# Altium schematic symbol library 613 0xx 257 21.SchLib: 14 symbols
Pins are listed as number, name and electrical type; pins without a type are passive.

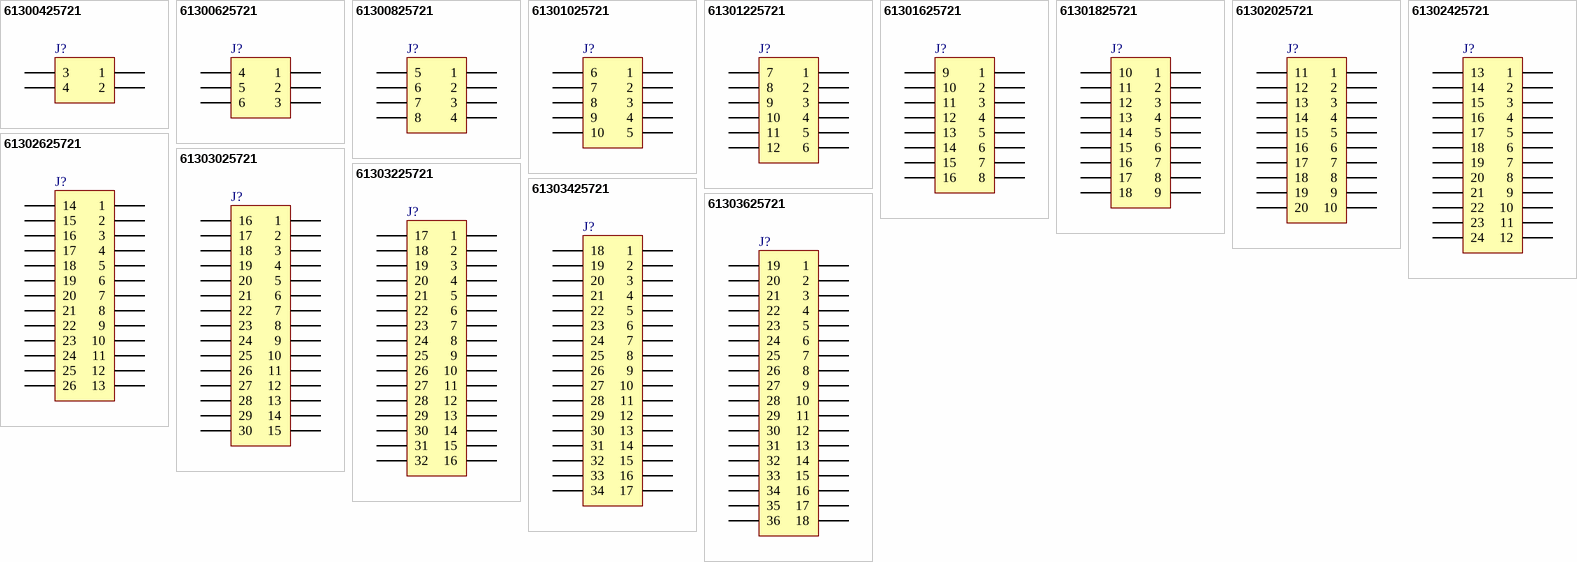
[diagram p0: symbols 61300425721 to 61303625721]

## 61300425721
designator J?, comment 04p  (value not drawn)
WR-PHD 2.54 mm Dual Socket Header Bottom Entry, 04p; PartNumber: 61300425721; PublishedDate: July 2016; Publisher: Wurth Elektronik; ComponentLink1Description: Manufacturer; ComponentLink1URL: http://www.we-online.de; ComponentLink2Description: Datasheet; ComponentLink2URL: http://katalog.we-online.de/em/datasheet/6130xx25721.pdf; PinNumber: 04p
footprint 61300425721
pins: 1, 2, 3, 4

## 61300625721
designator J?, comment 06p  (value not drawn)
WR-PHD 2.54 mm Dual Socket Header Bottom Entry, 06p; PartNumber: 61300625721; PublishedDate: July 2016; Publisher: Wurth Elektronik; ComponentLink1Description: Manufacturer; ComponentLink1URL: http://www.we-online.de; ComponentLink2Description: Datasheet; ComponentLink2URL: http://katalog.we-online.de/em/datasheet/6130xx25721.pdf; PinNumber: 06p
footprint 61300625721
pins: 1, 2, 3, 4, 5, 6

## 61300825721
designator J?, comment 08p  (value not drawn)
WR-PHD 2.54 mm Dual Socket Header Bottom Entry, 08p; PartNumber: 61300825721; PublishedDate: July 2016; Publisher: Wurth Elektronik; ComponentLink1Description: Manufacturer; ComponentLink1URL: http://www.we-online.de; ComponentLink2Description: Datasheet; ComponentLink2URL: http://katalog.we-online.de/em/datasheet/6130xx25721.pdf; PinNumber: 08p
footprint 61300825721
pins: 1, 2, 3, 4, 5, 6, 7, 8

## 61301025721
designator J?, comment 10p  (value not drawn)
WR-PHD 2.54 mm Dual Socket Header Bottom Entry, 10p; PartNumber: 61301025721; PublishedDate: July 2016; Publisher: Wurth Elektronik; ComponentLink1Description: Manufacturer; ComponentLink1URL: http://www.we-online.de; ComponentLink2Description: Datasheet; ComponentLink2URL: http://katalog.we-online.de/em/datasheet/6130xx25721.pdf; PinNumber: 10p
footprint 61301025721
pins: 1, 2, 3, 4, 5, 6, 7, 8, 9, 10

## 61301225721
designator J?, comment 12p  (value not drawn)
WR-PHD 2.54 mm Dual Socket Header Bottom Entry, 12p; PartNumber: 61301225721; PublishedDate: July 2016; Publisher: Wurth Elektronik; ComponentLink1Description: Manufacturer; ComponentLink1URL: http://www.we-online.de; ComponentLink2Description: Datasheet; ComponentLink2URL: http://katalog.we-online.de/em/datasheet/6130xx25721.pdf; PinNumber: 12p
footprint 61301225721
pins: 1, 2, 3, 4, 5, 6, 7, 8, 9, 10, 11, 12

## 61301625721
designator J?, comment 16p  (value not drawn)
WR-PHD 2.54 mm Dual Socket Header Bottom Entry, 16p; PartNumber: 61301625721; PublishedDate: July 2016; Publisher: Wurth Elektronik; ComponentLink1Description: Manufacturer; ComponentLink1URL: http://www.we-online.de; ComponentLink2Description: Datasheet; ComponentLink2URL: http://katalog.we-online.de/em/datasheet/6130xx25721.pdf; PinNumber: 16p
footprint 61301625721
pins: 1, 2, 3, 4, 5, 6, 7, 8, 9, 10, 11, 12, 13, 14, 15, 16

## 61301825721
designator J?, comment 18p  (value not drawn)
WR-PHD 2.54 mm Dual Socket Header Bottom Entry, 18p; PartNumber: 61301825721; PublishedDate: July 2016; Publisher: Wurth Elektronik; ComponentLink1Description: Manufacturer; ComponentLink1URL: http://www.we-online.de; ComponentLink2Description: Datasheet; ComponentLink2URL: http://katalog.we-online.de/em/datasheet/6130xx25721.pdf; PinNumber: 18p
footprint 61301825721
pins: 1, 2, 3, 4, 5, 6, 7, 8, 9, 10, 11, 12, 13, 14, 15, 16, 17, 18

## 61302025721
designator J?, comment 20p  (value not drawn)
WR-PHD 2.54 mm Dual Socket Header Bottom Entry, 20p; PartNumber: 61302025721; PublishedDate: July 2016; Publisher: Wurth Elektronik; ComponentLink1Description: Manufacturer; ComponentLink1URL: http://www.we-online.de; ComponentLink2Description: Datasheet; ComponentLink2URL: http://katalog.we-online.de/em/datasheet/6130xx25721.pdf; PinNumber: 20p
footprint 61302025721
pins: 1, 2, 3, 4, 5, 6, 7, 8, 9, 10, 11, 12, 13, 14, 15, 16, 17, 18, 19, 20

## 61302425721
designator J?, comment 24p  (value not drawn)
WR-PHD 2.54 mm Dual Socket Header Bottom Entry, 24p; PartNumber: 61302425721; PublishedDate: July 2016; Publisher: Wurth Elektronik; ComponentLink1Description: Manufacturer; ComponentLink1URL: http://www.we-online.de; ComponentLink2Description: Datasheet; ComponentLink2URL: http://katalog.we-online.de/em/datasheet/6130xx25721.pdf; PinNumber: 24p
footprint 61302425721
pins: 1, 2, 3, 4, 5, 6, 7, 8, 9, 10, 11, 12, 13, 14, 15, 16, 17, 18, 19, 20, 21, 22, 23, 24

## 61302625721
designator J?, comment 26p  (value not drawn)
WR-PHD 2.54 mm Dual Socket Header Bottom Entry, 26p; PartNumber: 61302625721; PublishedDate: July 2016; Publisher: Wurth Elektronik; ComponentLink1Description: Manufacturer; ComponentLink1URL: http://www.we-online.de; ComponentLink2Description: Datasheet; ComponentLink2URL: http://katalog.we-online.de/em/datasheet/6130xx25721.pdf; PinNumber: 26p
footprint 61302625721
pins: 1, 2, 3, 4, 5, 6, 7, 8, 9, 10, 11, 12, 13, 14, 15, 16, 17, 18, 19, 20, 21, 22, 23, 24, 25, 26

## 61303025721
designator J?, comment 30p  (value not drawn)
WR-PHD 2.54 mm Dual Socket Header Bottom Entry, 30p; PartNumber: 61303025721; PublishedDate: July 2016; Publisher: Wurth Elektronik; ComponentLink1Description: Manufacturer; ComponentLink1URL: http://www.we-online.de; ComponentLink2Description: Datasheet; ComponentLink2URL: http://katalog.we-online.de/em/datasheet/6130xx25721.pdf; PinNumber: 30p
footprint 61303025721
pins: 1, 2, 3, 4, 5, 6, 7, 8, 9, 10, 11, 12, 13, 14, 15, 16, 17, 18, 19, 20, 21, 22, 23, 24, 25, 26, 27, 28, 29, 30

## 61303225721
designator J?, comment 32p  (value not drawn)
WR-PHD 2.54 mm Dual Socket Header Bottom Entry, 32p; PartNumber: 61303225721; PublishedDate: July 2016; Publisher: Wurth Elektronik; ComponentLink1Description: Manufacturer; ComponentLink1URL: http://www.we-online.de; ComponentLink2Description: Datasheet; ComponentLink2URL: http://katalog.we-online.de/em/datasheet/6130xx25721.pdf; PinNumber: 32p
footprint 61303225721
pins: 1, 2, 3, 4, 5, 6, 7, 8, 9, 10, 11, 12, 13, 14, 15, 16, 17, 18, 19, 20, 21, 22, 23, 24, 25, 26, 27, 28, 29, 30, 31, 32

## 61303425721
designator J?, comment 34p  (value not drawn)
WR-PHD 2.54 mm Dual Socket Header Bottom Entry, 34p; PartNumber: 61303425721; PublishedDate: July 2016; Publisher: Wurth Elektronik; ComponentLink1Description: Manufacturer; ComponentLink1URL: http://www.we-online.de; ComponentLink2Description: Datasheet; ComponentLink2URL: http://katalog.we-online.de/em/datasheet/6130xx25721.pdf; PinNumber: 34p
footprint 61303425721
pins: 1, 2, 3, 4, 5, 6, 7, 8, 9, 10, 11, 12, 13, 14, 15, 16, 17, 18, 19, 20, 21, 22, 23, 24, 25, 26, 27, 28, 29, 30, 31, 32, 33, 34

## 61303625721
designator J?, comment 36p  (value not drawn)
WR-PHD 2.54 mm Dual Socket Header Bottom Entry, 36p; PartNumber: 61303625721; PublishedDate: July 2016; Publisher: Wurth Elektronik; ComponentLink1Description: Manufacturer; ComponentLink1URL: http://www.we-online.de; ComponentLink2Description: Datasheet; ComponentLink2URL: http://katalog.we-online.de/em/datasheet/6130xx25721.pdf; PinNumber: 36p
footprint 61303625721
pins: 1, 2, 3, 4, 5, 6, 7, 8, 9, 10, 11, 12, 13, 14, 15, 16, 17, 18, 19, 20, 21, 22, 23, 24, 25, 26, 27, 28, 29, 30, 31, 32, 33, 34, 35, 36